# EAGLE library part MF2X8M (library gost_con_mini-fit)
Molex Mini-Fit Jr.™ Connectors
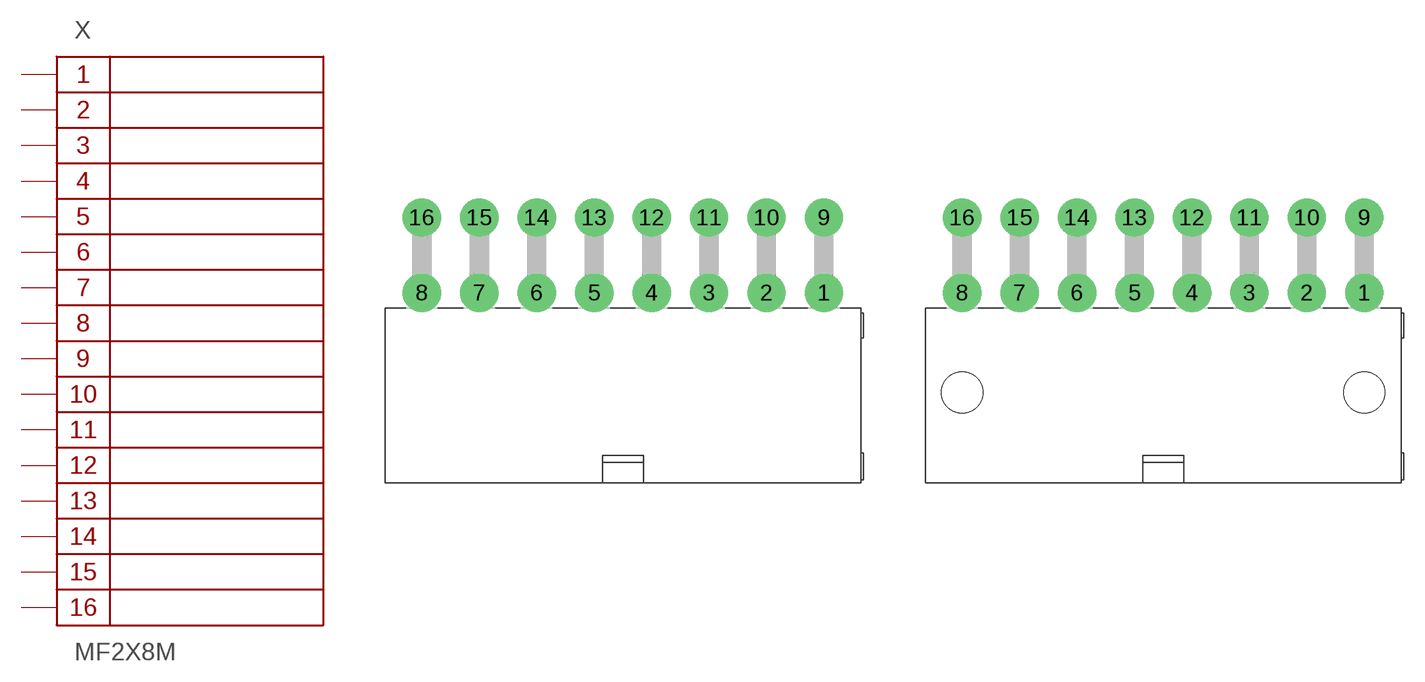
[diagram p8: symbol with the pads of MF2X8MR; footprints MF2X8MR, MF2X8MRA]

Designator prefix X

## MF2X8MR  [MF2X8MR]
1  1
2  2
3  3
4  4
5  5
6  6
7  7
8  8
9  9
10  10
11  11
12  12
13  13
14  14
15  15
16  16

## MF2X8MRA  [MF2X8MRA]
Pads as for MF2X8MR

## MF2X8MA  [MF2X8MA]
Pads as for MF2X8MR

## MF2X8MRB  [MF2X8MRB]
Pads as for MF2X8MR

## Footprint MF2X8MR (pad centres in mm)
drill 1.8 pad 2.8: 1 14.7,-2.1; 2 10.5,-2.1; 3 6.3,-2.1; 4 2.1,-2.1; 5 -2.1,-2.1; 6 -6.3,-2.1; 7 -10.5,-2.1; 8 -14.7,-2.1; 9 14.7,3.4; 10 10.5,3.4; 11 6.3,3.4; 12 2.1,3.4; 13 -2.1,3.4; 14 -6.3,3.4; 15 -10.5,3.4; 16 -14.7,3.4

## Footprint MF2X8MRA (pad centres in mm)
drill 1.8 pad 2.8: 1 14.7,-2.1; 2 10.5,-2.1; 3 6.3,-2.1; 4 2.1,-2.1; 5 -2.1,-2.1; 6 -6.3,-2.1; 7 -10.5,-2.1; 8 -14.7,-2.1; 9 14.7,3.4; 10 10.5,3.4; 11 6.3,3.4; 12 2.1,3.4; 13 -2.1,3.4; 14 -6.3,3.4; 15 -10.5,3.4; 16 -14.7,3.4
hole 3 at 14.7,-9.4
hole 3 at -14.7,-9.4

## Footprint MF2X8MA (pad centres in mm)
drill 1.4 pad 2.6: 1 14.7,-2.75; 2 10.5,-2.75; 3 6.3,-2.75; 4 2.1,-2.75; 5 -2.1,-2.75; 6 -6.3,-2.75; 7 -10.5,-2.75; 8 -14.7,-2.75; 9 14.7,2.75; 10 10.5,2.75; 11 6.3,2.75; 12 2.1,2.75; 13 -2.1,2.75; 14 -6.3,2.75; 15 -10.5,2.75; 16 -14.7,2.75

## Footprint MF2X8MRB (pad centres in mm)
drill 1.8 pad 2.8: 1 14.7,-2.1; 2 10.5,-2.1; 3 6.3,-2.1; 4 2.1,-2.1; 5 -2.1,-2.1; 6 -6.3,-2.1; 7 -10.5,-2.1; 8 -14.7,-2.1; 9 14.7,3.4; 10 10.5,3.4; 11 6.3,3.4; 12 2.1,3.4; 13 -2.1,3.4; 14 -6.3,3.4; 15 -10.5,3.4; 16 -14.7,3.4
hole 2.4 at 19.3,-6.3
hole 2.4 at -19.3,-6.3